# EAGLE library part 90122-0780_FE (library molex_2020)
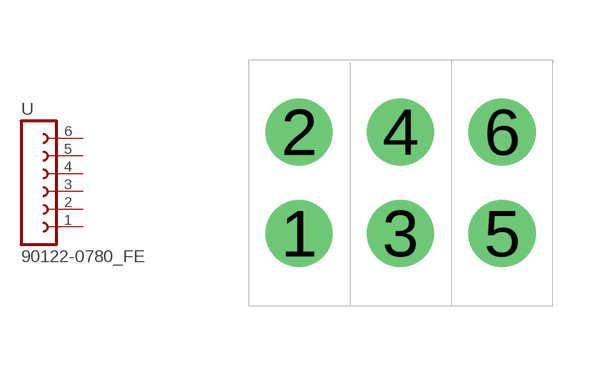
[diagram p0: symbol with the pads of 90122-0763_TOP; footprint 90122-0763_TOP]

Designator prefix -

## 90122-0780_FE  [90122-0763_TOP]
1  1  pas
2  2  pas
3  3  pas
4  4  pas
5  5  pas
6  6  pas

## Footprint 90122-0763_TOP (pad centres in mm)
drill 1 pad 1.676 round: 1 -2.54,-1.27; 2 -2.54,1.27; 3 0,-1.27; 4 0,1.27; 5 2.54,-1.27; 6 2.54,1.27